# Altium integrated library Integrated_Library1.IntLib: 2 symbols
Pins are listed as number, name and electrical type; pins without a type are passive.

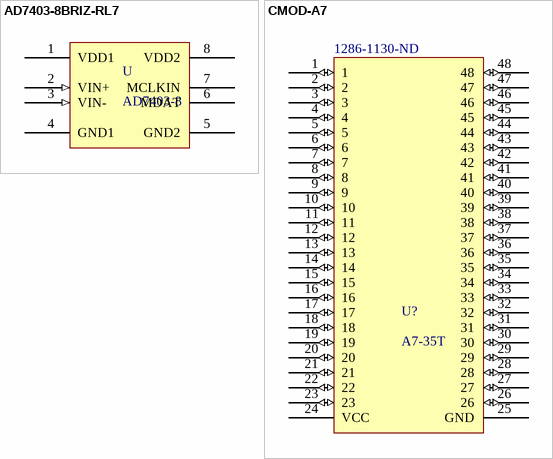
[diagram p0: symbols AD7403-8BRIZ-RL7 to CMOD-A7]

## AD7403-8BRIZ-RL7
designator U, comment AD7403-8
IC ISOLATED MODULE 16BIT 8SOIC; Supplier 1: Digi-Key; Supplier 2: Digi-Key; Supplier 3: Mouser; Supplier Part Number 1: 505-AD7403-8BRIZ-RL7CT-ND; Supplier Part Number 2: AD7403-8BRIZ-ND; Supplier Part Number 3: 584-AD7403-8BRIZ-RL7
footprint SOIC-8N
pins: 1 VDD1 (power), 2 VIN+ (in), 3 VIN- (in), 4 GND1 (power), 5 GND2 (power), 6 MDAT (power), 7 MCLKIN (power), 8 VDD2 (power)

## CMOD-A7
designator U?, comment A7-35T  Supplier Part Number 1: 1286-1130-ND
Artix-7 FPGA Development Board 50MHz CPU 112.5KB RAM 4MB SPI Flash Embedded Processors and Controllers; Supplier 1: Digi-Key
pins: 1 (io), 2 (io), 3 (io), 4 (io), 5 (io), 6 (io), 7 (io), 8 (io), 9 (io), 10 (io), 11 (io), 12 (io), 13 (io), 14 (io), 15 (io), 16 (io), 17 (io), 18 (io), 19 (io), 20 (io), 21 (io), 22 (io), 23 (io), 24 VCC (power), 25 GND (power), 26 (io), 27 (io), 28 (io), 29 (io), 30 (io), 31 (io), 32 (io), 33 (io), 34 (io), 35 (io), 36 (io), 37 (io), 38 (io), 39 (io), 40 (io), 41 (io), 42 (io), 43 (io), 44 (io), 45 (io), 46 (io), 47 (io), 48 (io)